# Altium footprint library THT_resistor_pcb.PcbLib: 2 footprints
Each footprint in its own frame and in the unit in brackets; x right, y up, seen from the top. Pads: shape width x height; smd on the part's side, far side on the other; paste and mask are expansions set on the pad; w line width, h text height; cw(c..) or ccw(c..) is an arc to the next point about the centre after c.
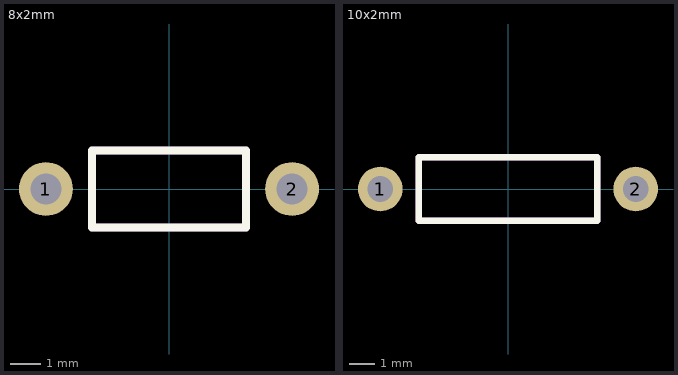
[diagram p0: the footprints below, top view; thin cyan lines are the x and y axes]

## 8x2mm [mm] "1/4W THT_resistor_8mm_witdh"
pads (2):
  round 1.75 hole 1: 1(-4,0) 2(4,0)
Top Overlay:
  lines w0.254: -2.5,-1.25 -2.5,1.25 2.5,1.25 2.5,-1.25 -2.5,-1.25
Mechanical 29:
  lines w0.254: -2.5,-1.25 -2.5,1.25 2.5,1.25 2.5,-1.25 -2.5,-1.25
3D body "Parça1.SLDPRT": height 2.7, standoff -1, extent -4.399,-1.197 4.399,1.198

## 10x2mm [mm] "1/4W THT_resistor_10mm_witdh"
pads (2):
  round 1.75 hole 1: 1(-5,0) 2(5,0)
Top Overlay:
  lines w0.254: -3.5,-1.25 -3.5,1.25 3.5,1.25 3.5,-1.25 -3.5,-1.25
Mechanical 29:
  lines w0.254: -3.5,-1.25 -3.5,1.25 3.5,1.25 3.5,-1.25 -3.5,-1.25
3D body "THT_metal_film_resistor_10mm_width.SLDPRT": height 2.7, standoff -1, extent -5.399,-1.198 5.399,1.198